# Altium schematic symbol library logo.SchLib: 1 symbol
Pins are listed as number, name and electrical type; pins without a type are passive.

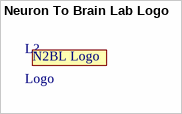
[diagram p0: symbol Neuron To Brain Lab Logo]

## Neuron To Brain Lab Logo
designator L?, comment Logo
footprint N2BL_LOGO (Example template footprint)
text: N2BL Logo